# Altium footprint library dianfazhan.PcbLib: 22 footprints (part 1 of 2)
Each footprint in its own frame and in the unit in brackets; x right, y up, seen from the top. Pads: shape width x height; smd on the part's side, far side on the other; paste and mask are expansions set on the pad; w line width, h text height; cw(c..) or ccw(c..) is an arc to the next point about the centre after c.
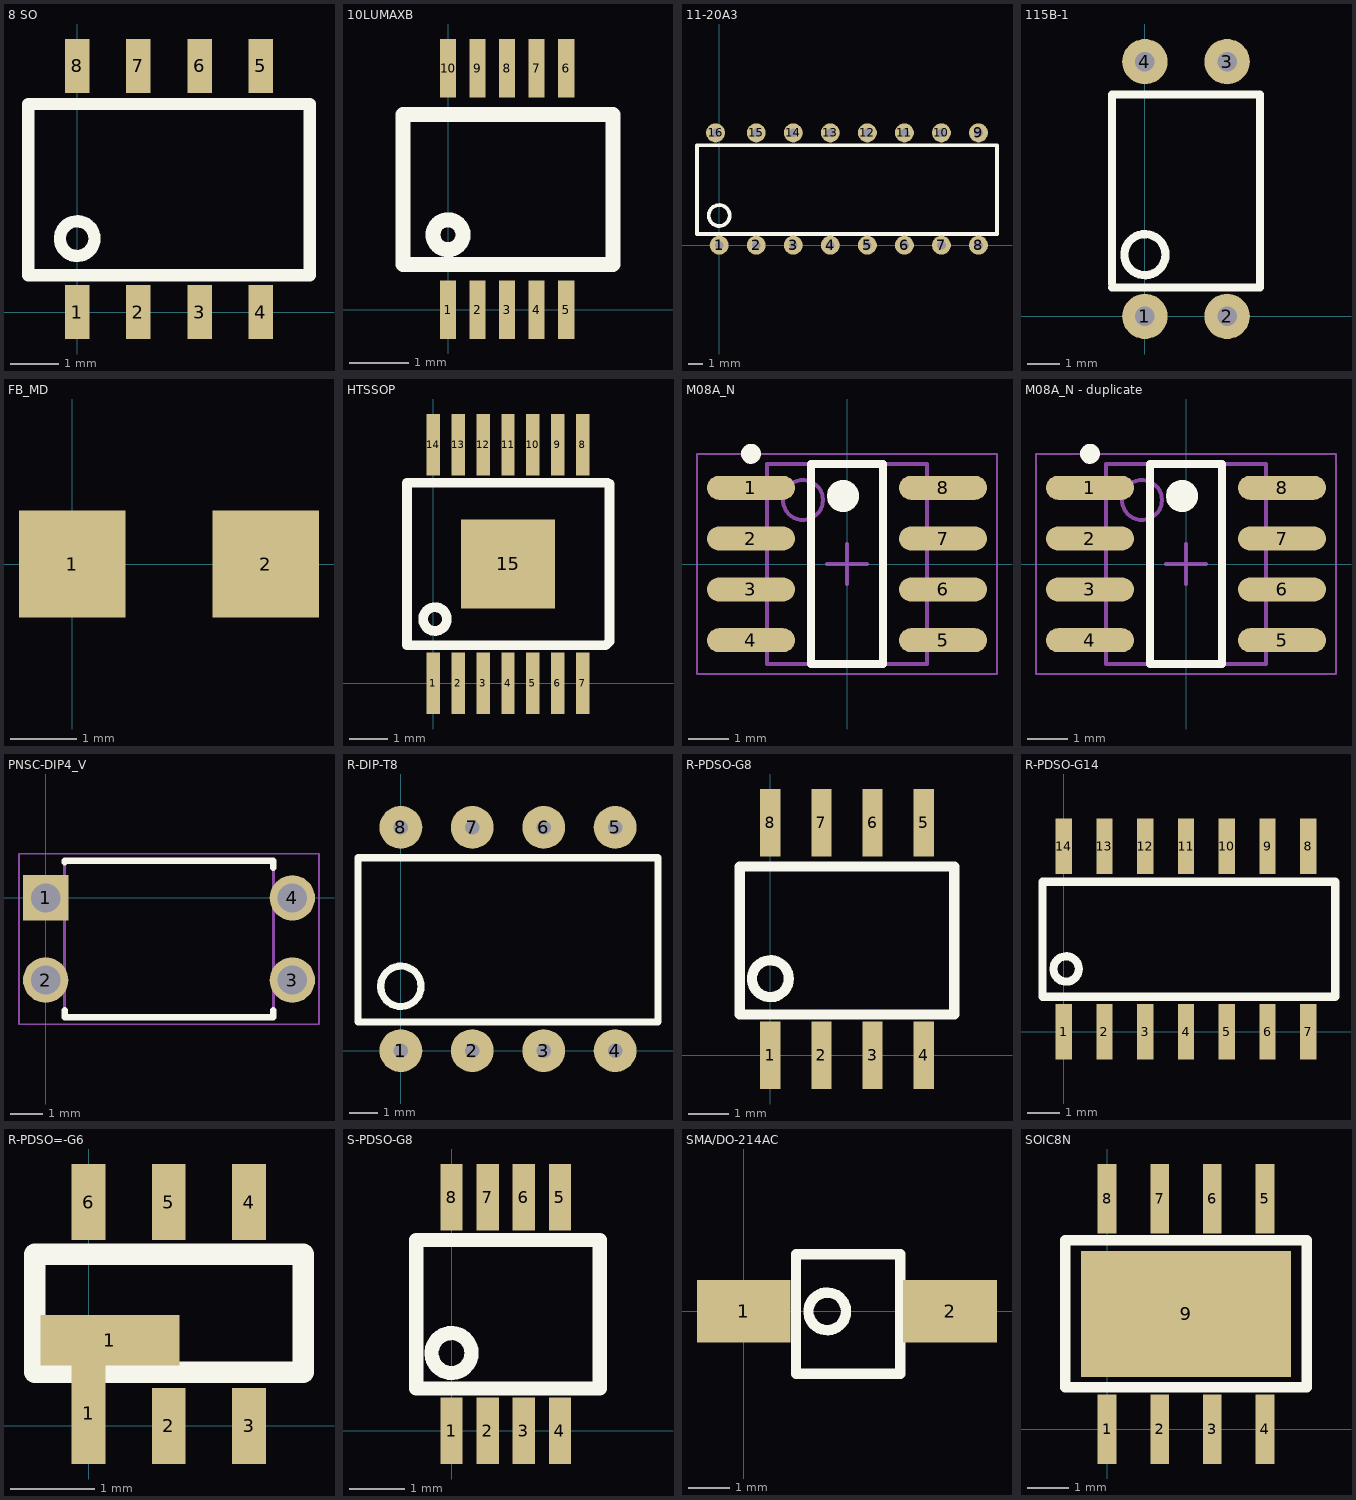
[diagram p0: the footprints below, top view; thin cyan lines are the x and y axes]

## 8 SO [mil]
pads (8):
  rect 20x44 smd: 1(0,0) 2(50,0) 3(100,0) 4(150,0) 5(150,201) 6(100,201) 7(50,201) 8(0,201)
Top Overlay:
  circle w10: c0,60 r14.14
  lines w10: -40,30 -40,170 190,170 190,30 -40,30

## 10LUMAXB [mil]
pads (10):
  rect 10.8x39 smd: 1(0,0) 2(19.7,0) 3(39.4,0) 4(59.1,0) 5(78.8,0) 6(78.8,161) 7(59.1,161) 8(39.4,161) 9(19.7,161) 10(0,161)
Top Overlay:
  circle w10: c0,50 r10
  lines w10: -30,30 110,30 110,130 -30,130 -30,30

## 11-20A3 [mm]
pads (16):
  round 1.3 hole 0.6: 1(0,0) 2(2.54,0) 3(5.08,0) 4(7.62,0) 5(10.16,0) 6(12.7,0) 7(15.24,0) 8(17.78,0) 9(17.78,7.7) 10(15.24,7.7) 11(12.7,7.7) 12(10.16,7.7) 13(7.62,7.7) 14(5.08,7.7) 15(2.54,7.7) 16(-0.254,7.7)
Top Overlay:
  circle w0.254: c0,2.032 r0.718
  lines w0.254: -1.524,0.762 19.05,0.762 19.05,6.858 -1.524,6.858 -1.524,0.762

## 115B-1 [mm]
pads (4):
  round 1.4 hole 0.6: 1(0,0) 2(2.54,0) 3(2.54,7.87) 4(0,7.87)
Top Overlay:
  circle w0.254: c0,1.905 r0.635
  lines w0.254: -1.016,0.889 3.556,0.889 3.556,6.858 -1.016,6.858 -1.016,1.016

## FB_MD [mm]
pads (2):
  rect 1.6x1.6 smd: 1(0,0) 2(2.9,0)

## HTSSOP [mm]
pads (15):
  rect 0.35x1.6 smd: 1(0,0) 2(0.65,0) 3(1.3,0) 4(1.95,0) 5(2.6,0) 6(3.25,0) 7(3.9,0) 8(3.9,6.225) 9(3.25,6.225) 10(2.6,6.225) 11(1.95,6.225) 12(1.3,6.225) 13(0.65,6.225) 14(0,6.225)
  rect 2.46x2.31 smd: 15(1.95,3.113)
Top Overlay:
  circle w0.254: c0.046,1.676 r0.31
  lines w0.254: -0.686,0.991 -0.686,5.232 4.547,5.232 4.597,5.207 4.597,1.092 4.496,0.991 -0.635,0.991

## M08A_N [mm] "SOIC, 8-Leads, Body 4.9x3.9mm, Pitch 1.27mm, IPC Medium Density"
height 1.75
pads (8):
  oval 2.2x0.6 smd: 1(-2.4,1.905) 2(-2.4,0.635) 3(-2.4,-0.635) 4(-2.4,-1.905) 5(2.4,-1.905) 6(2.4,-0.635) 7(2.4,0.635) 8(2.4,1.905)
Top Overlay:
  circle w0.25: c-2.4,2.755 r0.125
  circle w0.4: c-0.1,1.7 r0.2
  lines w0.2: -0.9,-2.5 -0.9,2.5 0.9,2.5 0.9,-2.5 -0.9,-2.5
Mechanical 13:
  circle w0.1: c-1.1,1.6 r0.5
  lines w0.1: -2,-2.5 -2,2.5 2,2.5 2,-2.5 -2,-2.5
Mechanical 15:
  lines w0.05: -3.75,-2.75 -3.75,2.75 3.75,2.75 3.75,-2.75 -3.75,-2.75
  lines w0.1: -0.5,0 0.5,0 ; 0,-0.5 0,0.5
3D body: height 1.75, standoff 0.1, extent -2,-2.5 2,2.5

## M08A_N - duplicate [mm] "SOIC, 8-Leads, Body 4.9x3.9mm, Pitch 1.27mm, IPC Medium Density"
height 1.75
pads (8):
  oval 2.2x0.6 smd: 1(-2.4,1.905) 2(-2.4,0.635) 3(-2.4,-0.635) 4(-2.4,-1.905) 5(2.4,-1.905) 6(2.4,-0.635) 7(2.4,0.635) 8(2.4,1.905)
Top Overlay:
  circle w0.25: c-2.4,2.755 r0.125
  circle w0.4: c-0.1,1.7 r0.2
  lines w0.2: -0.9,-2.5 -0.9,2.5 0.9,2.5 0.9,-2.5 -0.9,-2.5
Mechanical 13:
  circle w0.1: c-1.1,1.6 r0.5
  lines w0.1: -2,-2.5 -2,2.5 2,2.5 2,-2.5 -2,-2.5
Mechanical 15:
  lines w0.05: -3.75,-2.75 -3.75,2.75 3.75,2.75 3.75,-2.75 -3.75,-2.75
  lines w0.1: -0.5,0 0.5,0 ; 0,-0.5 0,0.5
3D body: height 1.75, standoff 0.1, extent -2,-2.5 2,2.5

## PNSC-DIP4_V [mm] "DIP, 4-Leads, Body 6.45x4.83mm, Pitch2.54 mm"
height 3.4
pads (4):
  rect 1.4x1.4 hole 0.9 mask+0.102: 1(0,0)
  round 1.4 hole 0.9 mask+0.102: 2(0,-2.54) 3(7.62,-2.54) 4(7.62,0)
Top Overlay:
  lines w0.2: 0.585,-3.472 0.585,-3.685 7.035,-3.685 7.035,-3.472 ; 0.585,1.1 0.585,1.145 7.035,1.145 7.035,0.932
Mechanical 13:
  lines w0.1: 0.585,-3.685 7.035,-3.685 7.035,1.145 0.585,1.145 0.585,-3.685
Mechanical 15:
  lines w0.05: -0.825,-3.91 -0.825,1.37 8.445,1.37 8.445,-3.91 -0.825,-3.91
3D body: height 3.4, standoff 0.2, extent 0.585,-3.685 7.035,1.145

## R-DIP-T8 [mil]
pads (8):
  round 60 hole 20: 1(0,0) 2(100,0) 3(200,0) 4(300,0) 5(300,312.5) 6(200,312.5) 7(100,312.5) 8(0,312.5)
Top Overlay:
  circle w10: c0,90 r28.28
  lines w10: -60,40 -60,270 360,270 360,40 -60,40

## R-PDSO-G8 [mil]
pads (8):
  rect 20x66 smd: 1(0,0) 2(50,0) 3(100,0) 4(150,0) 5(150,227.75) 6(100,227.75) 7(50,227.75) 8(0,227.75)
Top Overlay:
  circle w10: c0,75 r18.03
  lines w10: -30,40 180,40 180,185 -30,185 -30,40

## R-PDSO-G14 [mil]
pads (14):
  rect 20x68 smd: 1(0,0) 2(50,0) 3(100,0) 4(150,0) 5(200,0) 6(250,0) 7(300,0) 8(300,227.5) 9(250,227.5) 10(200,227.5) 11(150,227.5) 12(100,227.5) 13(50,227.5) 14(0,227.5)
Top Overlay:
  circle w10: c3,77 r15.56
  lines w10: -26,43 -26,184 333,184 333,43 -26,43

## R-PDSO=-G6 [mm]
pads (7):
  rect 0.4x1.2 smd: 1(0,0.15)
  rect 1.65x0.6 smd: 1(0.254,1.016)
  rect 0.4x0.9 smd: 2(0.95,0) 3(1.9,0) 4(1.9,2.65) 5(0.95,2.65) 6(0,2.65)
Top Overlay:
  lines w0.254: -0.635,0.635 2.54,0.635 2.54,2.032 -0.635,2.032 -0.635,0.635

## S-PDSO-G8 [mm]
pads (8):
  rect 0.4x1.2 smd: 1(0,0) 2(0.65,0) 3(1.3,0) 4(1.95,0) 5(1.95,4.2) 6(1.3,4.2) 7(0.65,4.2) 8(0,4.2)
Top Overlay:
  circle w0.254: c0,1.397 r0.359
  lines w0.254: -0.635,0.762 2.667,0.762 2.667,3.429 -0.635,3.429 -0.635,0.762

## SMA/DO-214AC [mil]
pads (2):
  rect 90x60 smd: 1(0,0) 2(198,0)
Top Overlay:
  circle w10: c80,0 r18.03
  lines w10: 50,-60 150,-60 150,55 50,55 50,-60

## SOIC8N [mil]
pads (9):
  rect 18x66 smd: 1(0,0) 2(50,0) 3(100,0) 4(150,0) 5(150,219.5) 6(100,219.5) 7(50,219.5) 8(0,219.5)
  rect 200x120 smd: 9(75,109.75)
Top Overlay:
  lines w10: -40,40 190,40 190,180 -40,180 -40,40